# EAGLE library part IC_OPA2830 (library dp_devices)
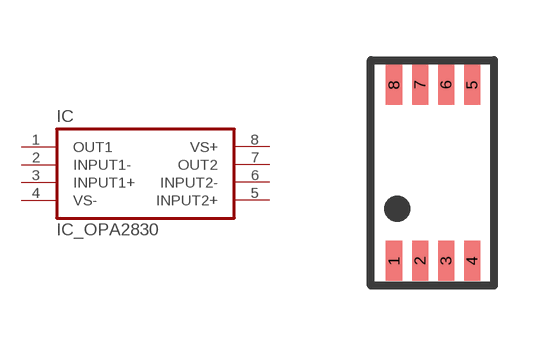
[diagram p56: symbol with the pads of DGK_S_PDSO_G8; footprint DGK_S_PDSO_G8]

Designator prefix IC

## IC_OPA2830  [DGK_S_PDSO_G8]
1  OUT1
2  INPUT1-
3  INPUT1+
4  VS-
5  INPUT2+
6  INPUT2-
7  OUT2
8  VS+

## Footprint DGK_S_PDSO_G8 (pad centres in mm)
smd 0.4 x 1: 1 -0.975,-2.2; 2 -0.325,-2.2; 3 0.325,-2.2; 4 0.975,-2.2; 5 0.975,2.2; 6 0.325,2.2; 7 -0.325,2.2; 8 -0.975,2.2